# EAGLE library part 25AA02E48-SOIC8 (library jonsowman)
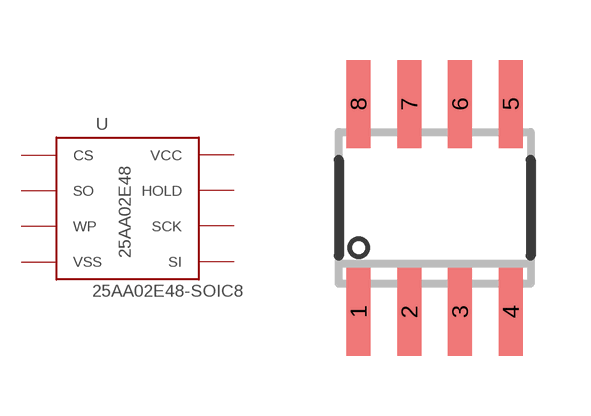
[diagram p4: symbol with the pads of SOIC8; footprint SOIC8]

Designator prefix -

## 25AA02E48-SOIC8  [SOIC8]
1  CS
2  SO
3  WP
4  VSS
5  VCC
6  HOLD
7  SCK
8  SI

## Footprint SOIC8 (pad centres in mm)
Small Outline IC
smd 0.6 x 2.2: 1 -1.905,-2.6; 2 -0.635,-2.6; 3 0.635,-2.6; 4 1.905,-2.6; 5 1.905,2.6; 6 0.635,2.6; 7 -0.635,2.6; 8 -1.905,2.6